# EAGLE library part ALD9100XX (library yapo)
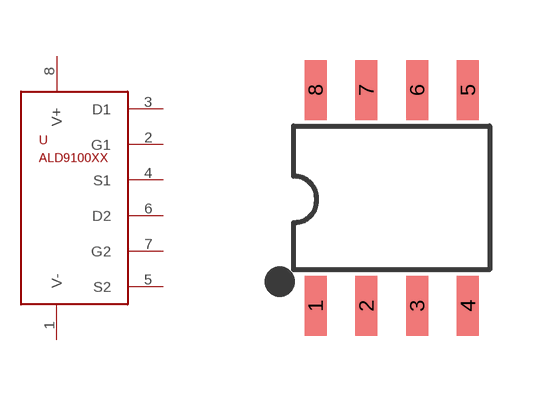
[diagram p34: symbol with the pads of SOIC8; footprint SOIC8]

Designator prefix -

## ALD9100XX  [SOIC8]
1  V-
2  G1
3  D1
4  S1
5  S2
6  D2
7  G2
8  V+

## Footprint SOIC8 (pad centres in mm)
smd 0.55 x 1.5: 1 -1.905,-2.7; 2 -0.635,-2.7; 3 0.635,-2.7; 4 1.905,-2.7; 5 1.905,2.7; 6 0.635,2.7; 7 -0.635,2.7; 8 -1.905,2.7